# Altium footprint library Sensor.PcbLib: 10 footprints
Each footprint in its own frame and in the unit in brackets; x right, y up, seen from the top. Pads: shape width x height; smd on the part's side, far side on the other; paste and mask are expansions set on the pad; w line width, h text height; cw(c..) or ccw(c..) is an arc to the next point about the centre after c.
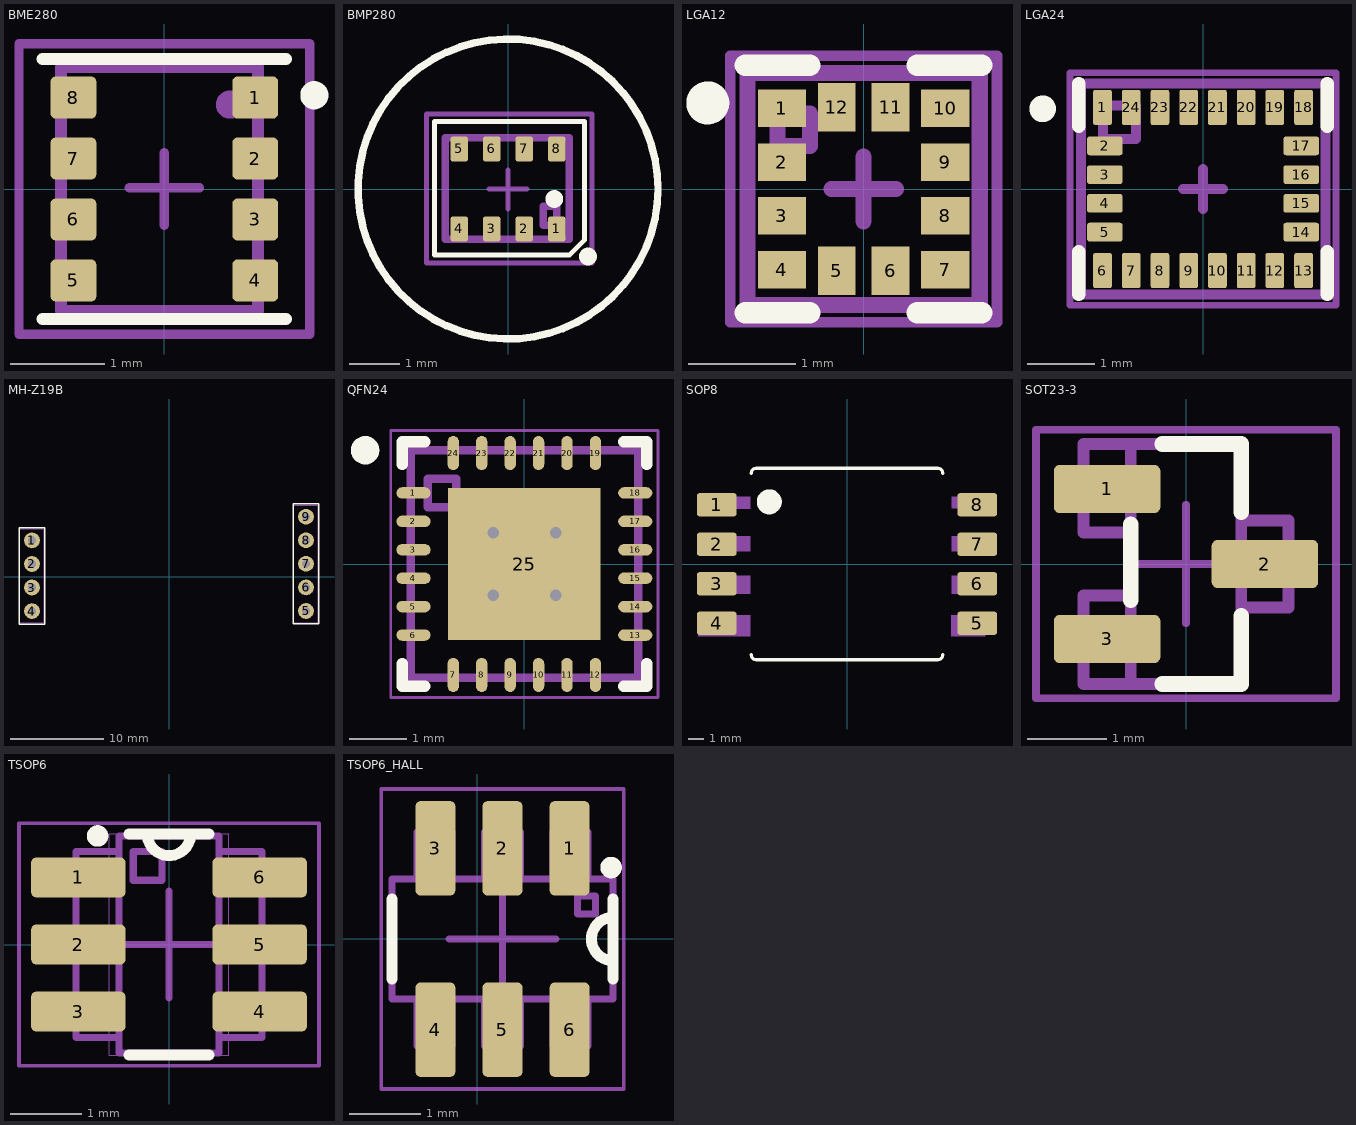
[diagram p0: the footprints below, top view; thin cyan lines are the x and y axes]

## BME280 [mm]
pads (8):
  rrect25% 0.49x0.45 smd: 1(0.97,0.975) 2(0.97,0.325) 3(0.97,-0.325) 4(0.97,-0.975) 5(-0.97,-0.975) 6(-0.97,-0.325) 7(-0.97,0.325) 8(-0.97,0.975)
Top Overlay:
  circle w0.2: c1.6,1 r0.05
  lines w0.127: -1.3,-1.385 1.3,-1.385 ; -1.3,1.385 1.3,1.385
Mechanical 9:
  text ".Designator" at -4.1,3.3 h3.5
Mechanical 10:
  text ".Comment" at -3.1,-3.8 h2
Mechanical 11:
  circle w0.2: c0.7,0.9 r0.05
  lines w0.127: -1.1,-1.3 1,-1.3 1,1.3 -1.1,1.3 -1.1,-1.3
Mechanical 15:
  lines w0.1: -0.375,0.013 0.375,0.012 ; 0,-0.387 0,0.387 ; -1.55,-1.55 1.55,-1.55 1.55,1.55 -1.55,1.55 -1.55,-1.55
3D body "User Library-Bosch_BME280.step": height 0.93, standoff 0, extent -1.25,-1.25 1.25,1.25

## BMP280 [mm]
pads (8):
  rrect25% 0.35x0.5 smd: 1(0.975,-0.8) 2(0.325,-0.8) 3(-0.325,-0.8) 4(-0.975,-0.8) 5(-0.975,0.8) 6(-0.325,0.8) 7(0.325,0.8) 8(0.975,0.8)
Top Overlay:
  circle w0.254: c0.925,-0.2 r0.05
  circle w0.254: c1.6,-1.35 r0.05
  circle w0.15: c0,0 r3
  lines w0.1: -1.475,-1.325 1.225,-1.325 1.525,-1.025 1.525,1.35 -1.475,1.35 -1.475,-1.325
Mechanical 9:
  text ".Designator" at -4.1,3.3 h3.5
Mechanical 10:
  text ".Comment" at -3.1,-3.8 h2
Mechanical 11:
  lines w0.15: -1.25,-1 -1.25,1.025 1.225,1.025 1.225,-1 -1.25,-1 ; 0.7,-0.725 0.975,-0.725 0.975,-0.35 0.7,-0.35 0.7,-0.725
Mechanical 15:
  lines w0.1: -0.375,0 0.375,0 ; 0,-0.4 0,0.375 ; -1.625,-1.475 -1.625,1.5 1.675,1.5 1.675,-1.475 -1.625,-1.475
3D body "User Library-BST-BMP280.step": height 1, standoff 0, extent -1.25,-1 1.25,1

## LGA12 [mm]
height 1.12
pads (12):
  rect 0.45x0.35 smd: 1(-0.76,0.75) 2(-0.76,0.25) 3(-0.76,-0.25) 4(-0.76,-0.75) 7(0.76,-0.75) 8(0.76,-0.25) 9(0.76,0.25) 10(0.76,0.75)
  rect 0.35x0.45 smd: 5(-0.25,-0.76) 6(0.25,-0.76) 11(0.25,0.76) 12(-0.25,0.76)
Top Overlay:
  circle w0.2: c-1.45,0.8 r0.1
  lines w0.2: -1.1,-1.15 -0.5,-1.15 ; -1.1,1.15 -0.5,1.15 ; 0.5,-1.15 1.1,-1.15 ; 0.5,1.15 1.1,1.15
Mechanical 9:
  text ".Designator" at -5,2.1 h3.5
Mechanical 10:
  text ".Comment" at -2.8,-2.6 h2
Mechanical 11:
  lines w0.15: -1.08,-1.08 1.08,-1.08 ; -1.08,-1.08 -1.08,1.08 ; -1.08,-1.08 1.08,-1.08 ; -1.08,-1.08 -1.08,1.08 ; -1.08,1.08 1.08,1.08 ; -1.08,1.08 1.08,1.08 ; 1.08,-1.08 1.08,1.08 ; 1.08,-1.08 1.08,1.08 ; -0.8,0.4 -0.8,0.7 -0.5,0.7 -0.5,0.4 -0.8,0.4
Mechanical 15:
  lines w0.1: -1.24,-1.24 1.24,-1.24 1.24,1.24 -1.24,1.24 -1.24,-1.24
  lines w0.15: -0.3,0 0.3,0 ; 0,-0.3 0,0.3
3D body "User Library-lga-2x2x0_9.step": height 0.95, standoff 0, extent -1,-1 1,1

## LGA24 [mm]
height 1.12
pads (24):
  rrect25% 0.28x0.53 smd: 1(-1.505,1.22) 6(-1.505,-1.22) 7(-1.075,-1.22) 8(-0.645,-1.22) 9(-0.215,-1.22) 10(0.215,-1.22) 11(0.645,-1.22) 12(1.075,-1.22) 13(1.505,-1.22) 18(1.505,1.22) 19(1.075,1.22) 20(0.645,1.22) 21(0.215,1.22) 22(-0.215,1.22) 23(-0.645,1.22) 24(-1.075,1.22)
  rrect25% 0.53x0.28 smd: 2(-1.47,0.645) 3(-1.47,0.215) 4(-1.47,-0.215) 5(-1.47,-0.645) 14(1.47,-0.645) 15(1.47,-0.215) 16(1.47,0.215) 17(1.47,0.645)
Top Overlay:
  circle w0.2: c-2.4,1.2 r0.1
  lines w0.2: -1.86,-1.58 -1.86,-0.94 ; -1.86,0.94 -1.86,1.58 ; 1.86,-1.58 1.86,-0.94 ; 1.86,0.94 1.86,1.58
Mechanical 7:
  lines w0.15: -1.83,-1.58 -1.83,1.58 ; -1.83,-1.58 1.83,-1.58 ; -1.83,-1.58 -1.83,1.58 ; -1.83,-1.58 1.83,-1.58 ; -1.83,1.58 1.83,1.58 ; -1.83,1.58 1.83,1.58 ; 1.83,-1.58 1.83,1.58 ; 1.83,-1.58 1.83,1.58 ; -1.5,0.75 -1,0.75 -1,1.25 -1.5,1.25 -1.5,0.75
Mechanical 9:
  text ".Designator" at -4.5,2.75 h3.5
Mechanical 10:
  text ".Comment" at -2.25,-3.25 h2
Mechanical 15:
  lines w0.1: -1.99,-1.74 -1.99,1.74 1.99,1.74 1.99,-1.74 -1.99,-1.74
  lines w0.15: -0.3,0 0.3,0 ; 0,-0.3 0,0.3
3D body "User Library-LGA-24L_3_5x3_0_43p.step": height 1, standoff 0, extent -1.75,-1.5 1.75,1.5

## MH-Z19B [mm]
height 1.12
pads (9):
  round 1.7 hole 0.9: 1(-14.77,3.895) 2(-14.77,1.355) 3(-14.77,-1.185) 6(14.77,-1.175) 7(14.77,1.365) 8(14.77,3.905) 9(14.77,6.445)
  round 1.7 hole 0.9 mask+0.102: 4(-14.77,-3.725) 5(14.77,-3.715)
Top Overlay:
  lines w0.15: -16.17,-5.125 -16.17,5.275 -13.37,5.275 -13.37,-5.125 -16.17,-5.125 ; 13.37,-5.115 16.17,-5.115 16.17,7.825 13.37,7.825 13.37,-5.115
Mechanical 7:
  lines w0.1: -13.47,5.125 -16.07,5.125 -16.07,-4.975 -13.47,-4.975 -13.438,5.125 ; 16.07,7.675 13.47,7.675 13.47,-4.965 16.07,-4.965 16.11,7.675
Mechanical 10:
  text ".Comment" at 15.87,-0.265 h0.6
  text ".Comment" at -16.829,-0.215 h0.6
3D body "co2.stp": height 11.35, standoff -5.94, extent -16.285,-8.635 16.285,11.115

## QFN24 [mm]
height 0.8
pads (25):
  oval 0.6x0.2 smd: 1(-1.95,1.25) 2(-1.95,0.75) 3(-1.95,0.25) 4(-1.95,-0.25) 5(-1.95,-0.75) 6(-1.95,-1.25) 13(1.95,-1.25) 14(1.95,-0.75) 15(1.95,-0.25) 16(1.95,0.25) 17(1.95,0.75) 18(1.95,1.25)
  oval 0.2x0.6 smd: 7(-1.25,-1.95) 8(-0.75,-1.95) 9(-0.25,-1.95) 10(0.25,-1.95) 11(0.75,-1.95) 12(1.25,-1.95) 19(1.25,1.95) 20(0.75,1.95) 21(0.25,1.95) 22(-0.25,1.95) 23(-0.75,1.95) 24(-1.25,1.95)
  rect 2.68x2.68 smd: 25(0,0)
via -0.55,0.55 diameter 0.5 hole 0.2
via 0.55,0.55 diameter 0.5 hole 0.2
via -0.55,-0.55 diameter 0.5 hole 0.2
via 0.55,-0.55 diameter 0.5 hole 0.2
Top Overlay:
  circle w0.25: c-2.8,2 r0.125
  lines w0.2: -2.15,-1.75 -2.15,-2.15 -1.75,-2.15 ; -2.15,1.75 -2.15,2.15 -1.75,2.15 ; 1.75,-2.15 2.15,-2.15 2.15,-1.75 ; 1.75,2.15 2.15,2.15 2.15,1.75
Mechanical 9:
  text ".Designator" at -4.1,3.3 h3.5
Mechanical 10:
  text ".Comment" at -3.1,-3.8 h2
Mechanical 11:
  lines w0.15: -2,-2 -2,2 2,2 2,-2 -2,-2 ; -1.7,1 -1.7,1.5 -1.2,1.5 -1.2,1 -1.7,1
Mechanical 15:
  lines w0.05: -2.35,-2.35 -2.35,2.35 2.35,2.35 2.35,-2.35 -2.35,-2.35
  lines w0.1: -0.5,0 0.5,0 ; 0,-0.5 0,0.5
3D body "User Library-QFN24_4x4.STEP": height 1, standoff 0, extent -2.01,-2.01 2.01,2.01

## SOP8 [mil]
pads (8):
  rrect25% 100x60 smd: 1(-330,150) 2(-330,50) 3(-330,-50) 4(-330,-150) 5(330,-150) 6(330,-50) 7(330,50) 8(330,150)
Top Overlay:
  circle w39.37: c-196.85,157.48 r11.94
  lines w8: -242.5,-230 ccw(c-230,-230) -230,-242.5 230,-242.5 ccw(c230,-230) 242.5,-230 ; -242.5,230 cw(c-230,230) -230,242.5 230,242.5 cw(c230,230) 242.5,230
Mechanical 4:
  region: -378.51,170 -245,170 -245,140.59 -378.51,140.59
  region: 350,140.67 265.1,140.67 265.1,170 350,170
  region: -377.47,70 -245,70 -245,32.35 -377.47,32.35
  region: -378.19,-30 -245,-30 -245,-75.64 -378.19,-75.64
  region: -376.73,-130 -245,-130 -245,-182.98 -376.73,-182.98
  region: 350,32.57 265.97,32.57 265.97,70 350,70
  region: 350,-75.74 265.09,-75.74 265.09,-30 350,-30
  region: 350,-183.04 263.8,-183.04 263.8,-130 350,-130
  region: -378.51,170 -245,170 -245,140.59 -378.51,140.59
  region: 350,140.67 265.1,140.67 265.1,170 350,170
  region: -377.47,70 -245,70 -245,32.35 -377.47,32.35
  region: -378.19,-30 -245,-30 -245,-75.64 -378.19,-75.64
  region: -376.73,-130 -245,-130 -245,-182.98 -376.73,-182.98
  region: 350,32.57 265.97,32.57 265.97,70 350,70
  region: 350,-75.74 265.09,-75.74 265.09,-30 350,-30
  region: 350,-183.04 263.8,-183.04 263.8,-130 350,-130
3D body "SOP Top Side Port Package_1369-01.STEP": height 307.8, standoff -0.09, extent -358.47,-236.59 358.47,488.41

## SOT23-3 [mm]
height 1.12
pads (3):
  rrect25% 1.35x0.61 smd: 1(-1,0.95) 2(1,0) 3(-1,-0.95)
Top Overlay:
  lines w0.2: -0.7,-0.46 -0.7,0.5 ; -0.3,-1.52 0.7,-1.52 0.7,-0.66 ; -0.3,1.52 0.7,1.52 0.7,0.66
Mechanical 9:
  text ".Designator" at -5.1,2.6 h3.5
Mechanical 10:
  text ".Comment" at -2.9,-3.2 h2
Mechanical 11:
  lines w0.15: -0.7,-1.52 -0.7,1.52 ; -0.7,-0.4 -1.3,-0.4 -1.3,-1.52 0.7,-1.52 0.7,1.52 -1.3,1.52 -1.3,0.4 -0.7,0.4 ; 0.7,-0.55 1.3,-0.55 1.3,0.55 0.7,0.55
Mechanical 15:
  lines w0.1: -0.75,0 0.75,0 ; 0,-0.75 0,0.75 ; -1.9,-1.7 1.9,-1.7 1.9,1.7 -1.9,1.7 -1.9,-1.7
3D body "SOT-23-3.STEP": height 1.1, standoff 0, extent -1.15,-1.5 1.15,1.5

## TSOP6 [mil]
pads (6):
  rrect25% 52x22 smd: 1(-50,37) 2(-50,0) 3(-50,-37) 4(50,-37) 5(50,0) 6(50,37)
Top Overlay:
  circle w7.87: c-39.37,59.84 r1.97
  lines w6: -22,-61 -12,-61 12,-61 22,-61 ; -22,61 -12,61 ; 22,61 12,61 ; -12,61 ccw(c0,61) 12,61 ; -12,61 12,61
Mechanical 4:
  lines w0: -59,-47 -33,-47 ; -59,-47 -59,-28 ; -59,-47 -33,-47 ; -59,-47 -59,-28 ; -59,-28 -33,-28 ; -59,-28 -33,-28 ; -59,-10 -33,-10 ; -59,-10 -59,10 ; -59,-10 -33,-10 ; -59,-10 -59,10 ; -59,10 -33,10 ; -59,10 -33,10 ; -59,28 -33,28 ; -59,28 -59,47 ; -59,28 -33,28 ; -59,28 -59,47 ; -59,47 -33,47 ; -59,47 -33,47 ; -33,-61 -12,-61 ; -33,-61 -12,-61 ; -33,-61 -33,-47 ; -33,-61 33,-61 ; -33,-61 -33,-47 ; -33,-61 33,-61 ; -33,-47 -33,-28 ; -33,-47 -33,-28 ; -33,-28 -33,-10 ; -33,-28 -33,-10 ; -33,-10 -33,10 ; -33,-10 -33,10 ; -33,10 -33,28 ; -33,10 -33,28 ; -33,28 -33,47 ; -33,28 -33,47 ; -33,47 -33,61 ; -33,47 -33,61 ; -33,61 -12,61 ; -33,61 -12,61 ; -12,-61 12,-61 ; -12,-61 12,-61 ; -12,61 ccw(c0,61) 12,61 ; -12,61 ccw(c0,61) 12,61 ; -12,61 12,61 ; -12,61 12,61 ; 12,-61 33,-61 ; 12,-61 33,-61 ; 12,61 33,61 ; 12,61 33,61 ; 33,-61 33,-47 ; 33,-61 33,-47 ; 33,-47 59,-47 ; 33,-47 33,-28 ; 33,-47 59,-47 ; 33,-47 33,-28 ; 33,-28 59,-28 ; 33,-28 33,-10 ; 33,-28 59,-28 ; 33,-28 33,-10 ; 33,-10 59,-10 ; 33,-10 33,10 ; 33,-10 59,-10 ; 33,-10 33,10 ; 33,10 59,10 ; 33,10 33,28 ; 33,10 59,10 ; 33,10 33,28 ; 33,28 59,28 ; 33,28 33,47 ; 33,28 59,28 ; 33,28 33,47 ; 33,47 59,47 ; 33,47 33,61 ; 33,47 59,47 ; 33,47 33,61 ; 59,-47 59,-28 ; 59,-47 59,-28 ; 59,-10 59,10 ; 59,-10 59,10 ; 59,28 59,47 ; 59,28 59,47
Mechanical 9:
  text ".Designator" at -49.21,7.87 h39.37
  text ".Comment" at -49.21,-21.65 h31.5
Mechanical 11:
  lines w3.94: -27.56,-51.18 -51.18,-51.18 -51.18,-15.75 -51.18,51.18 -27.56,51.18 ; 27.56,-51.18 51.18,-51.18 51.18,15.75 51.18,51.18 27.56,51.18 ; -27.56,-59.84 -27.56,59.84 27.56,59.84 27.56,-59.84 -27.56,-59.84 ; -19.68,35.43 -3.94,35.43 -3.94,51.18 -19.68,51.18 -19.68,35.43
Mechanical 15:
  lines w1.97: -82.68,-66.93 -82.68,66.93 82.68,66.93 82.68,-66.93 -82.68,-66.93
  lines w3.94: -29.53,0 29.53,0 ; 0,-29.53 0,29.53
3D body "User Library-TSOP-6.step": height 39.37, standoff 0, extent -53.14,-59.05 53.16,59.06

## TSOP6_HALL [mil]
pads (6):
  rrect25% 22x52 smd: 1(50.78,50) 2(13.78,50) 3(-23.22,50) 4(-23.22,-50) 5(13.78,-50) 6(50.78,-50)
Top Overlay:
  circle w7.87: c73.62,39.37 r1.97
  lines w6: -47.22,-22 -47.22,-12 -47.22,12 -47.22,22 ; 74.78,-22 74.78,-12 ; 74.78,22 74.78,12 ; 74.78,-12 cw(c74.78,0) 74.78,12 ; 74.78,-12 74.78,12
Mechanical 9:
  text ".Comment" at -37.38,-17.72 h31.5
  text ".Designator" at -45.28,-0.01 h39.37
Mechanical 11:
  lines w3.94: -47.22,-33 -47.22,33 ; -47.22,-33 -33.22,-33 ; -47.22,-33 -47.22,33 ; -47.22,-33 -33.22,-33 ; -47.22,-33 -47.22,-12 ; -47.22,-33 -47.22,-12 ; -47.22,-12 -47.22,12 ; -47.22,-12 -47.22,12 ; -47.22,12 -47.22,33 ; -47.22,12 -47.22,33 ; -47.22,33 -33.22,33 ; -47.22,33 -33.22,33 ; -33.22,-59 -33.22,-33 ; -33.22,-59 -14.22,-59 ; -33.22,-59 -33.22,-33 ; -33.22,-59 -14.22,-59 ; -33.22,-33 -14.22,-33 ; -33.22,-33 -14.22,-33 ; -33.22,33 -14.22,33 ; -33.22,33 -33.22,59 ; -33.22,33 -14.22,33 ; -33.22,33 -33.22,59 ; -33.22,59 -14.22,59 ; -33.22,59 -14.22,59 ; -14.22,-59 -14.22,-33 ; -14.22,-59 -14.22,-33 ; -14.22,-33 3.78,-33 ; -14.22,-33 3.78,-33 ; -14.22,33 3.78,33 ; -14.22,33 -14.22,59 ; -14.22,33 3.78,33 ; -14.22,33 -14.22,59 ; 3.78,-59 3.78,-33 ; 3.78,-59 23.78,-59 ; 3.78,-59 3.78,-33 ; 3.78,-59 23.78,-59 ; 3.78,-33 23.78,-33 ; 3.78,-33 23.78,-33 ; 3.78,33 23.78,33 ; 3.78,33 3.78,59 ; 3.78,33 23.78,33 ; 3.78,33 3.78,59 ; 3.78,59 23.78,59 ; 3.78,59 23.78,59 ; 23.78,-59 23.78,-33 ; 23.78,-59 23.78,-33 ; 23.78,-33 41.78,-33 ; 23.78,-33 41.78,-33 ; 23.78,33 41.78,33 ; 23.78,33 23.78,59 ; 23.78,33 41.78,33 ; 23.78,33 23.78,59 ; 41.78,-59 41.78,-33 ; 41.78,-59 60.78,-59 ; 41.78,-59 41.78,-33 ; 41.78,-59 60.78,-59 ; 41.78,-33 60.78,-33 ; 41.78,-33 60.78,-33 ; 41.78,33 60.78,33 ; 41.78,33 41.78,59 ; 41.78,33 60.78,33 ; 41.78,33 41.78,59 ; 41.78,59 60.78,59 ; 41.78,59 60.78,59 ; 60.78,-59 60.78,-33 ; 60.78,-59 60.78,-33 ; 60.78,-33 74.78,-33 ; 60.78,-33 74.78,-33 ; 60.78,33 74.78,33 ; 60.78,33 60.78,59 ; 60.78,33 74.78,33 ; 60.78,33 60.78,59 ; 74.78,-33 74.78,-12 ; 74.78,-33 74.78,-12 ; 74.78,-12 cw(c74.78,0) 74.78,12 ; 74.78,-12 cw(c74.78,0) 74.78,12 ; 74.78,-12 74.78,12 ; 74.78,-12 74.78,12 ; 74.78,12 74.78,33 ; 74.78,12 74.78,33 ; 55.12,13.78 55.12,23.62 64.96,23.62 64.96,13.78 55.12,13.78
Mechanical 15:
  lines w1.97: -53.15,-82.68 -53.15,82.68 80.71,82.68 80.71,-82.68 -53.15,-82.68
  lines w3.94: -15.75,0 43.31,0 ; 13.78,-29.53 13.78,29.53
3D body "User Library-TSOP-6.step": height 39.37, standoff 0, extent -45.28,-53.16 72.84,53.14